# Altium footprint library SMD Resistors.PcbLib: 5 footprints
Each footprint in its own frame and in the unit in brackets; x right, y up, seen from the top. Pads: shape width x height; smd on the part's side, far side on the other; paste and mask are expansions set on the pad; w line width, h text height; cw(c..) or ccw(c..) is an arc to the next point about the centre after c.
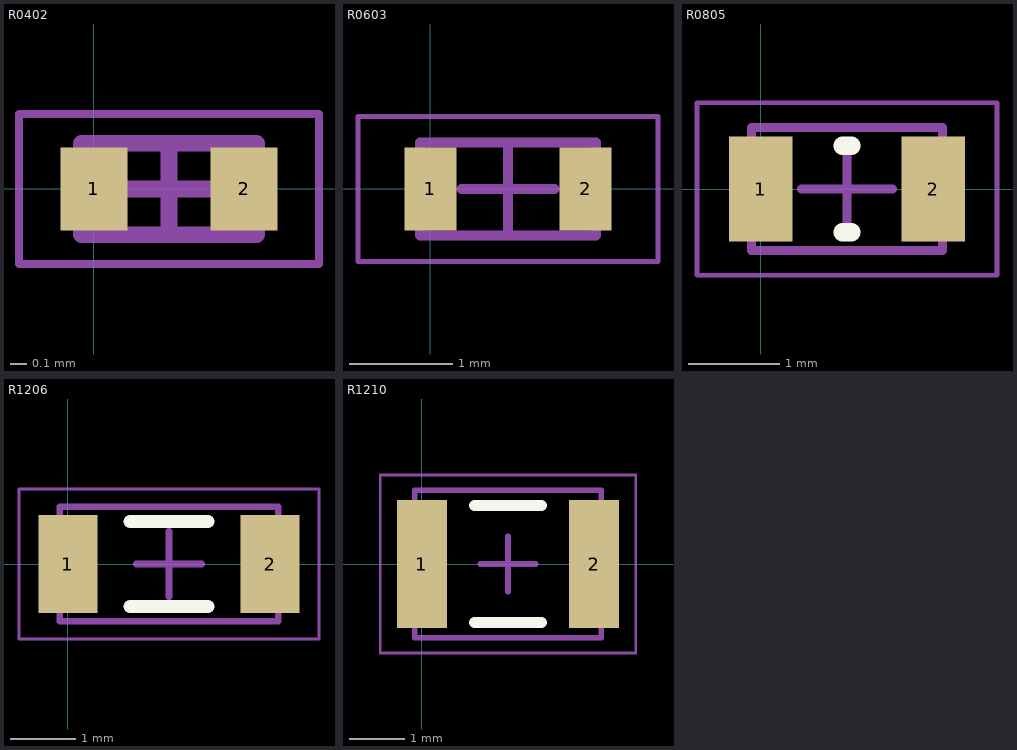
[diagram p0: the footprints below, top view; thin cyan lines are the x and y axes]

## R0402 [mm] "Chip Resistor, 2-Leads, Body 1.00x0.50mm, IPC Medium Density"
height 0.3
pads (2):
  rect 0.4x0.5 smd: 1(0,0) 2(0.9,0)
Mechanical 13:
  lines w0.1: -0.075,-0.275 0.975,-0.275 0.975,0.275 -0.075,0.275 -0.075,-0.275
Mechanical 15:
  lines w0.05: -0.45,-0.45 1.35,-0.45 1.35,0.45 -0.45,0.45 -0.45,-0.45
  lines w0.1: 0.175,0 0.725,0 ; 0.45,-0.275 0.45,0.275
3D body "R0402.step": height 0.37, standoff 0, extent -0.075,-0.275 0.975,0.275

## R0603 [mm] "Chip Resistor, 2-Leads, Body 1.60x0.80mm, IPC Medium Density"
height 0.45
pads (2):
  rect 0.5x0.8 smd: 1(0,0) 2(1.5,0)
Mechanical 13:
  lines w0.1: -0.1,-0.45 1.6,-0.45 1.6,0.45 -0.1,0.45 -0.1,-0.45
Mechanical 15:
  lines w0.05: -0.7,-0.7 2.2,-0.7 2.2,0.7 -0.7,0.7 -0.7,-0.7
  lines w0.1: 0.3,0 1.2,0 ; 0.75,-0.45 0.75,0.45
3D body "R0603.step": height 0.55, standoff 0, extent -0.1,-0.45 1.6,0.45

## R0805 [mm] "Chip Resistor, 2-Leads, Body 2.00x1.25mm, IPC Medium Density"
height 0.65
pads (2):
  rect 0.7x1.15 smd: 1(0,0) 2(1.9,0)
Top Overlay:
  lines w0.2: 0.9,-0.475 1,-0.475 ; 0.9,0.475 1,0.475
Mechanical 13:
  lines w0.1: -0.1,-0.675 -0.1,0.675 2,0.675 2,-0.675 -0.1,-0.675
Mechanical 15:
  lines w0.05: -0.7,-0.95 -0.7,0.95 2.6,0.95 2.6,-0.95 -0.7,-0.95
  lines w0.1: 0.45,0 1.45,0 ; 0.95,-0.5 0.95,0.5
3D body "R08051.step": height 0.65, standoff 0, extent -0.1,-0.675 2,0.675

## R1206 [mm] "Chip Resistor, 2-Leads, Body 3.20x1.60mm, IPC Medium Density"
height 0.65
pads (2):
  rect 0.9x1.5 smd: 1(0,0) 2(3.1,0)
Top Overlay:
  lines w0.2: 0.95,-0.65 2.15,-0.65 ; 0.95,0.65 2.15,0.65
Mechanical 13:
  lines w0.1: -0.125,-0.875 3.225,-0.875 3.225,0.875 -0.125,0.875 -0.125,-0.875
Mechanical 15:
  lines w0.05: -0.75,-1.15 3.85,-1.15 3.85,1.15 -0.75,1.15 -0.75,-1.15
  lines w0.1: 1.05,0 2.05,0 ; 1.55,-0.5 1.55,0.5
3D body "R1206.step": height 0.65, standoff 0, extent -0.05,-0.825 3.15,0.825

## R1210 [mm] "Chip Resistor, 2-Leads, Body 3.20x2.50mm, IPC Medium Density"
height 0.65
pads (2):
  rect 0.9x2.3 smd: 1(0,0) 2(3.1,0)
Top Overlay:
  lines w0.2: 0.95,-1.05 2.15,-1.05 ; 0.95,1.05 2.15,1.05
Mechanical 13:
  lines w0.1: -0.125,-1.325 3.225,-1.325 3.225,1.325 -0.125,1.325 -0.125,-1.325
Mechanical 15:
  lines w0.05: -0.75,-1.6 3.85,-1.6 3.85,1.6 -0.75,1.6 -0.75,-1.6
  lines w0.1: 1.05,0 2.05,0 ; 1.55,-0.5 1.55,0.5
3D body "R1210.step": height 0.65, standoff 0, extent -0.125,-1.325 3.225,1.325